# Altium schematic symbol library LT6711A.SchLib: 1 symbol
Pins are listed as number, name and electrical type; pins without a type are passive.

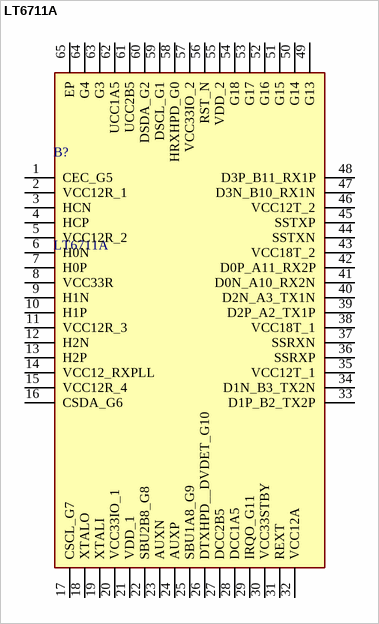
[diagram p0: symbol LT6711A]

## LT6711A
designator B?
LONTIUM SEMICONDUCTOR CORPORATION; Manufacturer_Name: Analog Devices; Geometry.Height: 0.8mm; Manufacturer_Part_Number: LT6711A; Mouser Part Number: *; Mouser Price/Stock: *; Arrow Part Number: *; Arrow Price/Stock: *; Datasheet Link: http://www.usbtech.net/upload/portal/20210129/d73e5232d142fd140d2b9d6b06aa9998.pdf
footprint QFN40P750X750X80-65N-D
pins: 1 CEC_G5, 2 VCC12R_1, 3 HCN, 4 HCP, 5 VCC12R_2, 6 H0N, 7 H0P, 8 VCC33R, 9 H1N, 10 H1P, 11 VCC12R_3, 12 H2N, 13 H2P, 14 VCC12_RXPLL, 15 VCC12R_4, 16 CSDA_G6, 17 CSCL_G7, 18 XTALO, 19 XTALI, 20 VCC33IO_1, 21 VDD_1, 22 SBU2B8_G8, 23 AUXN, 24 AUXP, 25 SBU1A8_G9, 26 DTXHPD__DVDET_G10, 27 DCC2B5, 28 DCC1A5, 29 IRQO_G11, 30 VCC33STBY, 31 REXT, 32 VCC12A, 33 D1P_B2_TX2P, 34 D1N_B3_TX2N, 35 VCC12T_1, 36 SSRXP, 37 SSRXN, 38 VCC18T_1, 39 D2P_A2_TX1P, 40 D2N_A3_TX1N, 41 D0N_A10_RX2N, 42 D0P_A11_RX2P, 43 VCC18T_2, 44 SSTXN, 45 SSTXP, 46 VCC12T_2, 47 D3N_B10_RX1N, 48 D3P_B11_RX1P, 49 G13, 50 G14, 51 G15, 52 G16, 53 G17, 54 G18, 55 VDD_2, 56 RST_N, 57 VCC33IO_2, 58 HRXHPD_G0, 59 DSCL_G1, 60 DSDA_G2, 61 UCC2B5, 62 UCC1A5, 63 G3, 64 G4, 65 EP